# Altium footprint library Handheld.PcbLib: 77 footprints (part 5 of 5)
Each footprint in its own frame and in the unit in brackets; x right, y up, seen from the top. Pads: shape width x height; smd on the part's side, far side on the other; paste and mask are expansions set on the pad; w line width, h text height; cw(c..) or ccw(c..) is an arc to the next point about the centre after c.
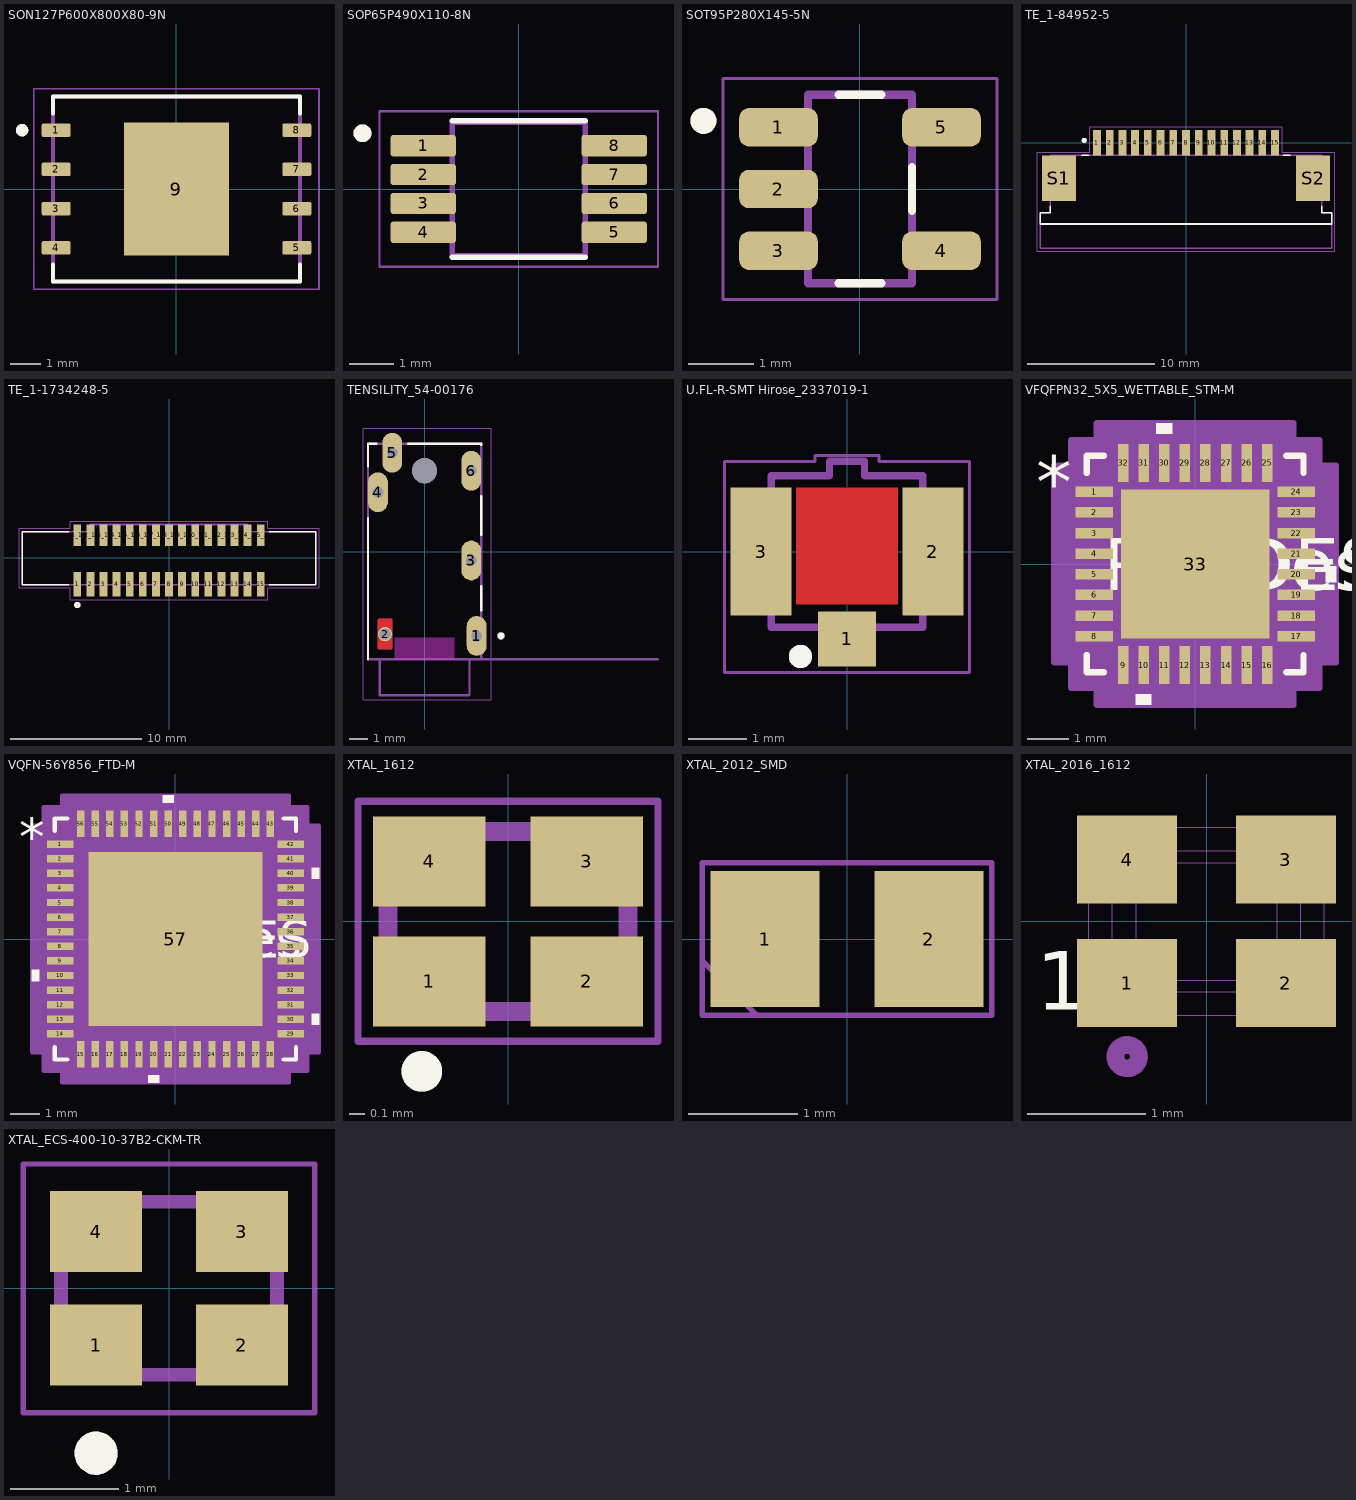
[diagram p4: the footprints below, top view; thin cyan lines are the x and y axes]

## SON127P600X800X80-9N [mm]
height 0.8
pads (9):
  rrect25% 0.94x0.44 smd: 1(-3.895,1.905) 2(-3.895,0.635) 3(-3.895,-0.635) 4(-3.895,-1.905) 5(3.895,-1.905) 6(3.895,-0.635) 7(3.895,0.635) 8(3.895,1.905)
  rect 3.4x4.3 smd paste-3: 9(0,0)
Top Overlay:
  circle w0.2: c-5,1.905 r0.1
  lines w0.127: -4,-2.445 -4,-3 4,-3 4,-2.445 ; -4,2.445 -4,3 4,3 4,2.445
Top Paste:
  region: -0.23,0.23 -1.24,0.23 -1.24,1.69 -0.23,1.69
  region: 1.24,0.23 0.23,0.23 0.23,1.69 1.24,1.69
  region: -0.23,-1.69 -1.24,-1.69 -1.24,-0.23 -0.23,-0.23
  region: 1.24,-1.69 0.23,-1.69 0.23,-0.23 1.24,-0.23
Mechanical 13:
  circle w0.2: c-5,1.905 r0.1
  lines w0.127: -4,-3 4,-3 4,3 -4,3 -4,-3
Mechanical 15:
  lines w0.05: -4.615,-3.25 -4.615,3.25 4.615,3.25 4.615,-3.25 -4.615,-3.25
3D body "step_temp.STEP": height 0.8, standoff -0.05, extent -4,-3 4,3

## SOP65P490X110-8N [mm]
pads (8):
  rrect25% 1.47x0.48 smd: 1(-2.15,0.975) 2(-2.15,0.325) 3(-2.15,-0.325) 4(-2.15,-0.975) 5(2.15,-0.975) 6(2.15,-0.325) 7(2.15,0.325) 8(2.15,0.975)
Top Overlay:
  circle w0.2: c-3.52,1.255 r0.1
  lines w0.127: -1.5,-1.535 1.5,-1.535 ; -1.5,1.535 1.5,1.535
Mechanical 13:
  circle w0.2: c-3.52,1.255 r0.1
  lines w0.127: -1.5,-1.5 1.5,-1.5 1.5,1.5 -1.5,1.5 -1.5,-1.5
Mechanical 15:
  lines w0.05: -3.135,-1.75 3.135,-1.75 3.135,1.75 -3.135,1.75 -3.135,-1.75
3D body "step_temp.STEP": height 1.1, standoff 0, extent -2.45,-1.5 2.45,1.5

## SOT95P280X145-5N [mm]
pads (5):
  rrect50% 1.21x0.59 smd: 1(-1.255,0.95) 2(-1.255,0) 3(-1.255,-0.95) 4(1.255,-0.95) 5(1.255,0.95)
Top Overlay:
  circle w0.2: c-2.41,1.05 r0.1
  lines w0.127: -0.33,-1.45 0.33,-1.45 ; -0.33,1.45 0.33,1.45 ; 0.8,-0.335 0.8,0.335
Mechanical 13:
  circle w0.2: c-2.41,1.05 r0.1
  lines w0.127: -0.8,-1.45 0.8,-1.45 0.8,1.45 -0.8,1.45 -0.8,-1.45
Mechanical 15:
  lines w0.05: -2.11,-1.7 -2.11,1.7 2.11,1.7 2.11,-1.7 -2.11,-1.7
3D body "step_temp.STEP": height 1.45, standoff 0, extent -1.4,-1.45 1.4,1.45

## TE_1-84952-5 [mm]
height 2.74
pads (17):
  rect 0.61x2 smd: 1(-7,0) 2(-6,0) 3(-5,0) 4(-4,0) 5(-3,0) 6(-2,0) 7(-1,0) 8(0,0) 9(1,0) 10(2,0) 11(3,0) 12(4,0) 13(5,0) 14(6,0) 15(7,0)
  rect 2.68x3.6 smd: S1(-9.99,-2.8) S2(9.99,-2.8)
Top Overlay:
  circle w0.2: c-8,0.17 r0.1
  lines w0.127: -10.675,-5 -10.675,-5.51 -11.46,-5.51 -11.46,-6.4 11.46,-6.4 11.46,-5.51 10.675,-5.51 10.675,-5 ; -8.2,-1 -7.64,-1 ; 7.64,-1 8.2,-1
Mechanical 13:
  circle w0.2: c-8,0.17 r0.1
  lines w0.127: -11.46,-6.4 -11.46,-8.3 11.46,-8.3 11.46,-6.4 ; -11.46,-6.4 11.46,-6.4 ; -11.46,-6.4 -11.46,-5.51 -10.675,-5.51 -10.675,-1 10.675,-1 10.675,-5.51 11.46,-5.51 11.46,-6.4
Mechanical 15:
  lines w0.05: -11.71,-8.55 11.71,-8.55 11.71,-0.75 7.555,-0.75 7.555,1.25 -7.555,1.25 -7.555,-0.75 -11.71,-0.75 -11.71,-8.55
3D body "1-84952-5.STEP": height 2.54, standoff -0.02, extent -11.46,-5.602 11.46,0.938

## TE_1-1734248-5 [mm]
pads (30):
  rect 0.6x1.85 smd: 1(-7,-2.025) 2(-6,-2.025) 3(-5,-2.025) 4(-4,-2.025) 5(-3,-2.025) 6(-2,-2.025) 7(-1,-2.025) 8(0,-2.025) 9(1,-2.025) 10(2,-2.025) 11(3,-2.025) 12(4,-2.025) 13(5,-2.025) 14(6,-2.025) 15(7,-2.025)
  rect 0.6x1.65 smd: 1_1(-7,1.725) 2_1(-6,1.725) 3_1(-5,1.725) 4_1(-4,1.725) 5_1(-3,1.725) 6_1(-2,1.725) 7_1(-1,1.725) 8_1(0,1.725) 9_1(1,1.725) 10_1(2,1.725) 11_1(3,1.725) 12_1(4,1.725) 13_1(5,1.725) 14_1(6,1.725) 15_1(7,1.725)
Top Overlay:
  circle w0.2: c-7,-3.6 r0.141
  lines w0.127: -7.65,-2.05 -11.2,-2.05 -11.2,2 -7.65,2 ; 7.65,-2.05 11.2,-2.05 11.2,2 7.65,2
Mechanical 13:
  circle w0.2: c-7,-3.6 r0.141
  lines w0.127: -11.2,-2.05 11.2,-2.05 11.2,2 6,2 6,2.55 -6,2.55 -6,2 -11.2,2 -11.2,-2.05
Mechanical 15:
  lines w0.05: -11.45,-2.3 -7.55,-2.3 -7.55,-3.2 7.55,-3.2 7.55,-2.3 11.45,-2.3 11.45,2.25 7.55,2.25 7.55,2.8 -7.55,2.8 -7.55,2.25 -11.45,2.25 -11.45,-2.3
3D body "step_temp.STEP": height 7.7, standoff 0, extent -11.2,-2.425 11.2,2.425

## TENSILITY_54-00176 [mm]
height 4.35
pads (7):
  oval 1.108x2.216 hole 0.6 square: 1(2.9,-4.7) 3(2.6,-0.5) 4(-2.6,3.3) 5(-1.8,5.5) 6(2.6,4.5)
  round 0.8 hole 0.6 mask+0: 2(-2.2,-4.6)
  round 1.4 hole 1.4 unplated: ""(0,4.5)
Top Layer:
  region: -1.89,-3.751 -1.884,-3.751 -1.879,-3.752 -1.874,-3.753 -1.869,-3.755 -1.864,-3.757 -1.859,-3.759 -1.855,-3.761 -1.85,-3.763 -1.846,-3.766 -1.841,-3.769 -1.837,-3.772 -1.833,-3.776 -1.829,-3.779 -1.826,-3.783 -1.822,-3.787 -1.819,-3.791 -1.816,-3.796 -1.813,-3.8 -1.811,-3.805 -1.809,-3.809 -1.807,-3.814 -1.805,-3.819 -1.803,-3.824 -1.802,-3.829 -1.801,-3.834 -1.801,-3.84 -1.8,-3.845 -1.8,-3.85 -1.8,-5.35 -1.8,-5.355 -1.801,-5.36 -1.801,-5.366 -1.802,-5.371 -1.803,-5.376 -1.805,-5.381 -1.807,-5.386 -1.809,-5.391 -1.811,-5.395 -1.813,-5.4 -1.816,-5.404 -1.819,-5.409 -1.822,-5.413 -1.826,-5.417 -1.829,-5.421 -1.833,-5.424 -1.837,-5.428 -1.841,-5.431 -1.846,-5.434 -1.85,-5.437 -1.855,-5.439 -1.859,-5.441 -1.864,-5.443 -1.869,-5.445 -1.874,-5.447 -1.879,-5.448 -1.884,-5.449 -1.89,-5.449 -1.895,-5.45 -2.505,-5.45 -2.51,-5.449 -2.516,-5.449 -2.521,-5.448 -2.526,-5.447 -2.531,-5.445 -2.536,-5.443 -2.541,-5.441 -2.545,-5.439 -2.55,-5.437 -2.554,-5.434 -2.559,-5.431 -2.563,-5.428 -2.567,-5.424 -2.571,-5.421 -2.574,-5.417 -2.578,-5.413 -2.581,-5.409 -2.584,-5.404 -2.587,-5.4 -2.589,-5.395 -2.591,-5.391 -2.593,-5.386 -2.595,-5.381 -2.597,-5.376 -2.598,-5.371 -2.599,-5.366 -2.599,-5.36 -2.6,-5.355 -2.6,-5.35 -2.6,-3.85 -2.6,-3.845 -2.599,-3.84 -2.599,-3.834 -2.598,-3.829 -2.597,-3.824 -2.595,-3.819 -2.593,-3.814 -2.591,-3.809 -2.589,-3.805 -2.587,-3.8 -2.584,-3.796 -2.581,-3.791 -2.578,-3.787 -2.574,-3.783 -2.571,-3.779 -2.567,-3.776 -2.563,-3.772 -2.559,-3.769 -2.554,-3.766 -2.55,-3.763 -2.545,-3.761 -2.541,-3.759 -2.536,-3.757 -2.531,-3.755 -2.526,-3.753 -2.521,-3.752 -2.516,-3.751 -2.51,-3.751 -2.505,-3.75 -1.895,-3.75
Bottom Layer:
  region: -1.89,-3.751 -1.884,-3.751 -1.879,-3.752 -1.874,-3.753 -1.869,-3.755 -1.864,-3.757 -1.859,-3.759 -1.855,-3.761 -1.85,-3.763 -1.846,-3.766 -1.841,-3.769 -1.837,-3.772 -1.833,-3.776 -1.829,-3.779 -1.826,-3.783 -1.822,-3.787 -1.819,-3.791 -1.816,-3.796 -1.813,-3.8 -1.811,-3.805 -1.809,-3.809 -1.807,-3.814 -1.805,-3.819 -1.803,-3.824 -1.802,-3.829 -1.801,-3.834 -1.801,-3.84 -1.8,-3.845 -1.8,-3.85 -1.8,-5.35 -1.8,-5.355 -1.801,-5.36 -1.801,-5.366 -1.802,-5.371 -1.803,-5.376 -1.805,-5.381 -1.807,-5.386 -1.809,-5.391 -1.811,-5.395 -1.813,-5.4 -1.816,-5.404 -1.819,-5.409 -1.822,-5.413 -1.826,-5.417 -1.829,-5.421 -1.833,-5.424 -1.837,-5.428 -1.841,-5.431 -1.846,-5.434 -1.85,-5.437 -1.855,-5.439 -1.859,-5.441 -1.864,-5.443 -1.869,-5.445 -1.874,-5.447 -1.879,-5.448 -1.884,-5.449 -1.89,-5.449 -1.895,-5.45 -2.505,-5.45 -2.51,-5.449 -2.516,-5.449 -2.521,-5.448 -2.526,-5.447 -2.531,-5.445 -2.536,-5.443 -2.541,-5.441 -2.545,-5.439 -2.55,-5.437 -2.554,-5.434 -2.559,-5.431 -2.563,-5.428 -2.567,-5.424 -2.571,-5.421 -2.574,-5.417 -2.578,-5.413 -2.581,-5.409 -2.584,-5.404 -2.587,-5.4 -2.589,-5.395 -2.591,-5.391 -2.593,-5.386 -2.595,-5.381 -2.597,-5.376 -2.598,-5.371 -2.599,-5.366 -2.599,-5.36 -2.6,-5.355 -2.6,-5.35 -2.6,-3.85 -2.6,-3.845 -2.599,-3.84 -2.599,-3.834 -2.598,-3.829 -2.597,-3.824 -2.595,-3.819 -2.593,-3.814 -2.591,-3.809 -2.589,-3.805 -2.587,-3.8 -2.584,-3.796 -2.581,-3.791 -2.578,-3.787 -2.574,-3.783 -2.571,-3.779 -2.567,-3.776 -2.563,-3.772 -2.559,-3.769 -2.554,-3.766 -2.55,-3.763 -2.545,-3.761 -2.541,-3.759 -2.536,-3.757 -2.531,-3.755 -2.526,-3.753 -2.521,-3.752 -2.516,-3.751 -2.51,-3.751 -2.505,-3.75 -1.895,-3.75
Top Overlay:
  circle w0.2: c4.25,-4.7 r0.1
  lines w0.127: -3.15,-6 -3.15,1.872 ; -3.15,4.728 -3.15,6 -2.674,6 ; -0.926,6 3.15,6 3.15,5.928 ; 3.15,-3.272 3.15,-1.928 ; 3.15,0.928 3.15,3.072
Top Solder:
  region: -1.879,-3.651 -1.869,-3.652 -1.858,-3.654 -1.848,-3.657 -1.838,-3.66 -1.828,-3.663 -1.819,-3.667 -1.809,-3.672 -1.8,-3.677 -1.791,-3.682 -1.782,-3.688 -1.774,-3.695 -1.766,-3.701 -1.759,-3.709 -1.751,-3.716 -1.745,-3.724 -1.738,-3.732 -1.732,-3.741 -1.727,-3.75 -1.722,-3.759 -1.717,-3.769 -1.713,-3.778 -1.71,-3.788 -1.707,-3.798 -1.704,-3.808 -1.702,-3.819 -1.701,-3.829 -1.7,-3.84 -1.7,-3.85 -1.7,-5.35 -1.7,-5.36 -1.701,-5.371 -1.702,-5.381 -1.704,-5.392 -1.707,-5.402 -1.71,-5.412 -1.713,-5.422 -1.717,-5.431 -1.722,-5.441 -1.727,-5.45 -1.732,-5.459 -1.738,-5.468 -1.745,-5.476 -1.751,-5.484 -1.759,-5.491 -1.766,-5.499 -1.774,-5.505 -1.782,-5.512 -1.791,-5.518 -1.8,-5.523 -1.809,-5.528 -1.819,-5.533 -1.828,-5.537 -1.838,-5.54 -1.848,-5.543 -1.858,-5.546 -1.869,-5.548 -1.879,-5.549 -1.89,-5.55 -2.51,-5.55 -2.521,-5.549 -2.531,-5.548 -2.542,-5.546 -2.552,-5.543 -2.562,-5.54 -2.572,-5.537 -2.581,-5.533 -2.591,-5.528 -2.6,-5.523 -2.609,-5.518 -2.618,-5.512 -2.626,-5.505 -2.634,-5.499 -2.641,-5.491 -2.649,-5.484 -2.655,-5.476 -2.662,-5.468 -2.668,-5.459 -2.673,-5.45 -2.678,-5.441 -2.683,-5.431 -2.687,-5.422 -2.69,-5.412 -2.693,-5.402 -2.696,-5.392 -2.698,-5.381 -2.699,-5.371 -2.7,-5.36 -2.7,-5.35 -2.7,-3.85 -2.7,-3.84 -2.699,-3.829 -2.698,-3.819 -2.696,-3.808 -2.693,-3.798 -2.69,-3.788 -2.687,-3.778 -2.683,-3.769 -2.678,-3.759 -2.673,-3.75 -2.668,-3.741 -2.662,-3.732 -2.655,-3.724 -2.649,-3.716 -2.641,-3.709 -2.634,-3.701 -2.626,-3.695 -2.618,-3.688 -2.609,-3.682 -2.6,-3.677 -2.591,-3.672 -2.581,-3.667 -2.572,-3.663 -2.562,-3.66 -2.552,-3.657 -2.542,-3.654 -2.531,-3.652 -2.521,-3.651 -2.51,-3.65 -1.89,-3.65
Bottom Solder:
  region: -1.879,-3.651 -1.869,-3.652 -1.858,-3.654 -1.848,-3.657 -1.838,-3.66 -1.828,-3.663 -1.819,-3.667 -1.809,-3.672 -1.8,-3.677 -1.791,-3.682 -1.782,-3.688 -1.774,-3.695 -1.766,-3.701 -1.759,-3.709 -1.751,-3.716 -1.745,-3.724 -1.738,-3.732 -1.732,-3.741 -1.727,-3.75 -1.722,-3.759 -1.717,-3.769 -1.713,-3.778 -1.71,-3.788 -1.707,-3.798 -1.704,-3.808 -1.702,-3.819 -1.701,-3.829 -1.7,-3.84 -1.7,-3.85 -1.7,-5.35 -1.7,-5.36 -1.701,-5.371 -1.702,-5.381 -1.704,-5.392 -1.707,-5.402 -1.71,-5.412 -1.713,-5.422 -1.717,-5.431 -1.722,-5.441 -1.727,-5.45 -1.732,-5.459 -1.738,-5.468 -1.745,-5.476 -1.751,-5.484 -1.759,-5.491 -1.766,-5.499 -1.774,-5.505 -1.782,-5.512 -1.791,-5.518 -1.8,-5.523 -1.809,-5.528 -1.819,-5.533 -1.828,-5.537 -1.838,-5.54 -1.848,-5.543 -1.858,-5.546 -1.869,-5.548 -1.879,-5.549 -1.89,-5.55 -2.51,-5.55 -2.521,-5.549 -2.531,-5.548 -2.542,-5.546 -2.552,-5.543 -2.562,-5.54 -2.572,-5.537 -2.581,-5.533 -2.591,-5.528 -2.6,-5.523 -2.609,-5.518 -2.618,-5.512 -2.626,-5.505 -2.634,-5.499 -2.641,-5.491 -2.649,-5.484 -2.655,-5.476 -2.662,-5.468 -2.668,-5.459 -2.673,-5.45 -2.678,-5.441 -2.683,-5.431 -2.687,-5.422 -2.69,-5.412 -2.693,-5.402 -2.696,-5.392 -2.698,-5.381 -2.699,-5.371 -2.7,-5.36 -2.7,-5.35 -2.7,-3.85 -2.7,-3.84 -2.699,-3.829 -2.698,-3.819 -2.696,-3.808 -2.693,-3.798 -2.69,-3.788 -2.687,-3.778 -2.683,-3.769 -2.678,-3.759 -2.673,-3.75 -2.668,-3.741 -2.662,-3.732 -2.655,-3.724 -2.649,-3.716 -2.641,-3.709 -2.634,-3.701 -2.626,-3.695 -2.618,-3.688 -2.609,-3.682 -2.6,-3.677 -2.591,-3.672 -2.581,-3.667 -2.572,-3.663 -2.562,-3.66 -2.552,-3.657 -2.542,-3.654 -2.531,-3.652 -2.521,-3.651 -2.51,-3.65 -1.89,-3.65
Keep-Out Layer:
  board cut-out: -1.65,-4.8 -1.65,-6 1.65,-6 1.65,-4.8
Mechanical 1:
  lines w0: -2.5,-5.35 -2.5,-3.85 -1.9,-3.85 -1.9,-5.35 -2.5,-5.35
Mechanical 13:
  circle w0.2: c4.25,-4.7 r0.1
  lines w0.127: 13,-6 -2.5,-6 ; -2.5,-6 -2.5,-8 2.5,-8 2.5,-6 3.15,-6 3.15,6 -3.15,6 -3.15,-6 -2.5,-6
  text "PCB EDGE" at 5.25,-5.75 h1
Mechanical 15:
  lines w0.05: -3.404,-8.25 -3.404,6.858 3.704,6.858 3.704,-8.25 -3.404,-8.25
3D body "step_temp.STEP": height 4.35, standoff -2, extent -3.15,-8 3.15,6

## U.FL-R-SMT Hirose_2337019-1 [mm] "Hirose U.FL RF receptacle - U.FL-R-SMT"
height 1.25
pads (3):
  rect 1x0.95 smd paste+0 mask+0.025: 1(0,-1.5)
  rect 1.05x2.2 smd paste+0 mask+0.025: 2(1.475,0) 3(-1.475,0)
Top Layer:
  pour cut-out: -0.875,-0.9 -0.875,1.1 0.875,1.1 0.875,-0.9
Mid-Layer 1:
  pour cut-out: -0.875,-0.9 -0.875,1.1 0.875,1.1 0.875,-0.9
Mid-Layer 2:
  pour cut-out: -0.875,-0.9 -0.875,1.1 0.875,1.1 0.875,-0.9
Top Overlay:
  circle w0.2: c-0.8,-1.8 r0.1
Mechanical 13:
  circle w0.2: c-0.8,-1.8 r0.1
  lines w0.127: -1.3,-1.3 1.3,-1.3 1.3,1.3 0.3,1.3 0.3,1.55 -0.3,1.55 -0.3,1.3 -1.3,1.3 -1.3,-1.3
Mechanical 15:
  lines w0.02: -0.05,0 0.05,0 ; 0,-0.05 0,0.05
  lines w0.05: -2.1,-2.075 2.1,-2.075 2.1,1.55 0.55,1.55 0.55,1.65 -0.55,1.65 -0.55,1.55 -2.1,1.55 -2.1,-2.075
3D body "step_temp.STEP": height 1.2, standoff -0.05, extent -1.5,-1.55 1.5,1.55

## VFQFPN32_5X5_WETTABLE_STM-M [mil]
pads (33):
  rect 36x10 smd paste+0 mask+0: 1(-96.5,68.9) 2(-96.5,49.21) 3(-96.5,29.53) 4(-96.5,9.84) 5(-96.5,-9.84) 6(-96.5,-29.53) 7(-96.5,-49.21) 8(-96.5,-68.9) 17(96.5,-68.9) 18(96.5,-49.21) 19(96.5,-29.53) 20(96.5,-9.84) 21(96.5,9.84) 22(96.5,29.53) 23(96.5,49.21) 24(96.5,68.9)
  rect 10x36 smd paste+0 mask+0: 9(-68.9,-96.5) 10(-49.21,-96.5) 11(-29.53,-96.5) 12(-9.84,-96.5) 13(9.84,-96.5) 14(29.53,-96.5) 15(49.21,-96.5) 16(68.9,-96.5) 25(68.9,96.5) 26(49.21,96.5) 27(29.53,96.5) 28(9.84,96.5) 29(-9.84,96.5) 30(-29.53,96.5) 31(-49.21,96.5) 32(-68.9,96.5)
  rect 142x142 smd paste-71 mask+0: 33(0,0)
Top Overlay:
  region: -41.71,-124.5 -56.71,-124.5 -56.71,-134.5 -41.71,-134.5
  region: 124.5,-2.34 134.5,-2.34 134.5,-17.34 124.5,-17.34
  region: -22.03,124.5 -37.03,124.5 -37.03,134.5 -22.03,134.5
  lines w6: -103.5,-87 -103.5,-103.5 -87,-103.5 ; -103.5,87 -103.5,103.5 -87,103.5 ; 87,-103.5 103.5,-103.5 103.5,-87 ; 87,103.5 103.5,103.5 103.5,87
  text "*" at -152,53.74 h50
  text "RefDes" at -75,-25 h50
  text "REFDES" at -87.5,-25 h50
Top Paste:
  region: -3.94,67.06 -67.06,67.06 -67.06,3.94 -3.94,3.94
  region: -3.94,-3.94 -67.06,-3.94 -67.06,-67.06 -3.94,-67.06
  region: 67.06,67.06 3.94,67.06 3.94,3.94 67.06,3.94
  region: 67.06,-3.94 3.94,-3.94 3.94,-67.06 67.06,-67.06
Mechanical 13:
  lines w1: -98.5,48.5 -48.5,98.5 ; -98.5,-98.5 98.5,-98.5 98.5,98.5 -98.5,98.5 -98.5,-98.5 ; -98.5,-74.9 -98.5,-62.9 -98.5,-74.9 ; -98.5,-55.21 -98.5,-43.21 -98.5,-55.21 ; -98.5,-35.53 -98.5,-23.53 -98.5,-35.53 ; -98.5,-15.84 -98.5,-3.84 -98.5,-15.84 ; -98.5,3.84 -98.5,15.84 -98.5,3.84 ; -98.5,23.53 -98.5,35.53 -98.5,23.53 ; -98.5,43.21 -98.5,55.21 -98.5,43.21 ; -98.5,62.9 -98.5,74.9 -98.5,62.9 ; -74.9,-98.5 -62.9,-98.5 -74.9,-98.5 ; -74.9,98.5 -62.9,98.5 -74.9,98.5 ; -55.21,-98.5 -43.21,-98.5 -55.21,-98.5 ; -55.21,98.5 -43.21,98.5 -55.21,98.5 ; -35.53,-98.5 -23.53,-98.5 -35.53,-98.5 ; -35.53,98.5 -23.53,98.5 -35.53,98.5 ; -15.84,-98.5 -3.84,-98.5 -15.84,-98.5 ; -15.84,98.5 -3.84,98.5 -15.84,98.5 ; 3.84,-98.5 15.84,-98.5 3.84,-98.5 ; 3.84,98.5 15.84,98.5 3.84,98.5 ; 23.53,-98.5 35.53,-98.5 23.53,-98.5 ; 23.53,98.5 35.53,98.5 23.53,98.5 ; 43.21,-98.5 55.21,-98.5 43.21,-98.5 ; 43.21,98.5 55.21,98.5 43.21,98.5 ; 62.9,-98.5 74.9,-98.5 62.9,-98.5 ; 62.9,98.5 74.9,98.5 62.9,98.5 ; 98.5,-74.9 98.5,-62.9 98.5,-74.9 ; 98.5,-55.21 98.5,-43.21 98.5,-55.21 ; 98.5,-35.53 98.5,-23.53 98.5,-35.53 ; 98.5,-15.84 98.5,-3.84 98.5,-15.84 ; 98.5,3.84 98.5,15.84 98.5,3.84 ; 98.5,23.53 98.5,35.53 98.5,23.53 ; 98.5,43.21 98.5,55.21 98.5,43.21 ; 98.5,62.9 98.5,74.9 98.5,62.9
  text "*" at -91,53.74 h50
  text "RefDes2" at -87.5,-25 h50
Mechanical 15:
  region: -93.9,-118.5 -118.5,-118.5 -118.5,-93.9 -134.5,-93.9 -134.5,93.9 -118.5,93.9 -118.5,118.5 -93.9,118.5 -93.9,134.5 93.9,134.5 93.9,118.5 118.5,118.5 118.5,93.9 134.5,93.9 134.5,-93.9 118.5,-93.9 118.5,-118.5 93.9,-118.5 93.9,-134.5 -93.9,-134.5
  lines w6: -134.5,-93.9 -118.5,-93.9 -118.5,-118.5 -93.9,-118.5 -93.9,-134.5 93.9,-134.5 93.9,-118.5 118.5,-118.5 118.5,-93.9 134.5,-93.9 134.5,93.9 118.5,93.9 118.5,118.5 93.9,118.5 93.9,134.5 -93.9,134.5 -93.9,118.5 -118.5,118.5 -118.5,93.9 -134.5,93.9 -134.5,-93.9
3D body "VFQFPN32_5X5_WETTABLE_STM.step": height 39.09, standoff 0, extent -98.5,-98.5 98.5,98.5

## VQFN-56Y856_FTD-M [mil]
pads (57):
  rect 36x10 smd paste+0 mask+0: 1(-155.5,127.95) 2(-155.5,108.27) 3(-155.5,88.58) 4(-155.5,68.9) 5(-155.5,49.21) 6(-155.5,29.53) 7(-155.5,9.84) 8(-155.5,-9.84) 9(-155.5,-29.53) 10(-155.5,-49.21) 11(-155.5,-68.9) 12(-155.5,-88.58) 13(-155.5,-108.27) 14(-155.5,-127.95) 29(155.5,-127.95) 30(155.5,-108.27) 31(155.5,-88.58) 32(155.5,-68.9) 33(155.5,-49.21) 34(155.5,-29.53) 35(155.5,-9.84) 36(155.5,9.84) 37(155.5,29.53) 38(155.5,49.21) 39(155.5,68.9) 40(155.5,88.58) 41(155.5,108.27) 42(155.5,127.95)
  rect 10x36 smd paste+0 mask+0: 15(-127.95,-155.5) 16(-108.27,-155.5) 17(-88.58,-155.5) 18(-68.9,-155.5) 19(-49.21,-155.5) 20(-29.53,-155.5) 21(-9.84,-155.5) 22(9.84,-155.5) 23(29.53,-155.5) 24(49.21,-155.5) 25(68.9,-155.5) 26(88.58,-155.5) 27(108.27,-155.5) 28(127.95,-155.5) 43(127.95,155.5) 44(108.27,155.5) 45(88.58,155.5) 46(68.9,155.5) 47(49.21,155.5) 48(29.53,155.5) 49(9.84,155.5) 50(-9.84,155.5) 51(-29.53,155.5) 52(-49.21,155.5) 53(-68.9,155.5) 54(-88.58,155.5) 55(-108.27,155.5) 56(-127.95,155.5)
  rect 234x234 smd paste-117 mask+0: 57(0,0)
Top Overlay:
  region: -183.5,-41.71 -193.5,-41.71 -193.5,-56.71 -183.5,-56.71
  region: -22.03,-183.5 -37.03,-183.5 -37.03,-193.5 -22.03,-193.5
  region: 183.5,-100.77 193.5,-100.77 193.5,-115.77 183.5,-115.77
  region: 183.5,96.08 193.5,96.08 193.5,81.08 183.5,81.08
  region: -2.34,183.5 -17.34,183.5 -17.34,193.5 -2.34,193.5
  lines w6: -162.5,-146.05 -162.5,-162.5 -146.05,-162.5 ; -162.5,146.05 -162.5,162.5 -146.05,162.5 ; 146.05,-162.5 162.5,-162.5 162.5,-146.05 ; 146.05,162.5 162.5,162.5 162.5,146.05
  text "*" at -211,112.8 h50
  text "RefDes" at -75,-25 h50
  text "REFDES" at -87.5,-25 h50
Top Paste:
  region: -62.44,113.06 -113.06,113.06 -113.06,62.44 -62.44,62.44
  region: -62.44,54.56 -113.06,54.56 -113.06,3.94 -62.44,3.94
  region: -62.44,-3.94 -113.06,-3.94 -113.06,-54.56 -62.44,-54.56
  region: -62.44,-62.44 -113.06,-62.44 -113.06,-113.06 -62.44,-113.06
  region: -3.94,113.06 -54.56,113.06 -54.56,62.44 -3.94,62.44
  region: -3.94,54.56 -54.56,54.56 -54.56,3.94 -3.94,3.94
  region: -3.94,-3.94 -54.56,-3.94 -54.56,-54.56 -3.94,-54.56
  region: -3.94,-62.44 -54.56,-62.44 -54.56,-113.06 -3.94,-113.06
  region: 54.56,113.06 3.94,113.06 3.94,62.44 54.56,62.44
  region: 54.56,54.56 3.94,54.56 3.94,3.94 54.56,3.94
  region: 54.56,-3.94 3.94,-3.94 3.94,-54.56 54.56,-54.56
  region: 54.56,-62.44 3.94,-62.44 3.94,-113.06 54.56,-113.06
  region: 113.06,113.06 62.44,113.06 62.44,62.44 113.06,62.44
  region: 113.06,54.56 62.44,54.56 62.44,3.94 113.06,3.94
  region: 113.06,-3.94 62.44,-3.94 62.44,-54.56 113.06,-54.56
  region: 113.06,-62.44 62.44,-62.44 62.44,-113.06 113.06,-113.06
Mechanical 13:
  lines w1: -157.5,107.5 -107.5,157.5 ; -157.5,-157.5 157.5,-157.5 157.5,157.5 -157.5,157.5 -157.5,-157.5 ; -157.5,-133.95 -157.5,-121.95 -157.5,-133.95 ; -157.5,-114.27 -157.5,-102.27 -157.5,-114.27 ; -157.5,-94.58 -157.5,-82.58 -157.5,-94.58 ; -157.5,-74.9 -157.5,-62.9 -157.5,-74.9 ; -157.5,-55.21 -157.5,-43.21 -157.5,-55.21 ; -157.5,-35.53 -157.5,-23.53 -157.5,-35.53 ; -157.5,-15.84 -157.5,-3.84 -157.5,-15.84 ; -157.5,3.84 -157.5,15.84 -157.5,3.84 ; -157.5,23.53 -157.5,35.53 -157.5,23.53 ; -157.5,43.21 -157.5,55.21 -157.5,43.21 ; -157.5,62.9 -157.5,74.9 -157.5,62.9 ; -157.5,82.58 -157.5,94.58 -157.5,82.58 ; -157.5,102.27 -157.5,114.27 -157.5,102.27 ; -157.5,121.95 -157.5,133.95 -157.5,121.95 ; -133.95,-157.5 -121.95,-157.5 -133.95,-157.5 ; -133.95,157.5 -121.95,157.5 -133.95,157.5 ; -114.27,-157.5 -102.27,-157.5 -114.27,-157.5 ; -114.27,157.5 -102.27,157.5 -114.27,157.5 ; -94.58,-157.5 -82.58,-157.5 -94.58,-157.5 ; -94.58,157.5 -82.58,157.5 -94.58,157.5 ; -74.9,-157.5 -62.9,-157.5 -74.9,-157.5 ; -74.9,157.5 -62.9,157.5 -74.9,157.5 ; -55.21,-157.5 -43.21,-157.5 -55.21,-157.5 ; -55.21,157.5 -43.21,157.5 -55.21,157.5 ; -35.53,-157.5 -23.53,-157.5 -35.53,-157.5 ; -35.53,157.5 -23.53,157.5 -35.53,157.5 ; -15.84,-157.5 -3.84,-157.5 -15.84,-157.5 ; -15.84,157.5 -3.84,157.5 -15.84,157.5 ; 3.84,-157.5 15.84,-157.5 3.84,-157.5 ; 3.84,157.5 15.84,157.5 3.84,157.5 ; 23.53,-157.5 35.53,-157.5 23.53,-157.5 ; 23.53,157.5 35.53,157.5 23.53,157.5 ; 43.21,-157.5 55.21,-157.5 43.21,-157.5 ; 43.21,157.5 55.21,157.5 43.21,157.5 ; 62.9,-157.5 74.9,-157.5 62.9,-157.5 ; 62.9,157.5 74.9,157.5 62.9,157.5 ; 82.58,-157.5 94.58,-157.5 82.58,-157.5 ; 82.58,157.5 94.58,157.5 82.58,157.5 ; 102.27,-157.5 114.27,-157.5 102.27,-157.5 ; 102.27,157.5 114.27,157.5 102.27,157.5 ; 121.95,-157.5 133.95,-157.5 121.95,-157.5 ; 121.95,157.5 133.95,157.5 121.95,157.5 ; 157.5,-133.95 157.5,-121.95 157.5,-133.95 ; 157.5,-114.27 157.5,-102.27 157.5,-114.27 ; 157.5,-94.58 157.5,-82.58 157.5,-94.58 ; 157.5,-74.9 157.5,-62.9 157.5,-74.9 ; 157.5,-55.21 157.5,-43.21 157.5,-55.21 ; 157.5,-35.53 157.5,-23.53 157.5,-35.53 ; 157.5,-15.84 157.5,-3.84 157.5,-15.84 ; 157.5,3.84 157.5,15.84 157.5,3.84 ; 157.5,23.53 157.5,35.53 157.5,23.53 ; 157.5,43.21 157.5,55.21 157.5,43.21 ; 157.5,62.9 157.5,74.9 157.5,62.9 ; 157.5,82.58 157.5,94.58 157.5,82.58 ; 157.5,102.27 157.5,114.27 157.5,102.27 ; 157.5,121.95 157.5,133.95 157.5,121.95
  text "*" at -150,112.8 h50
  text "RefDes2" at -87.5,-25 h50
Mechanical 15:
  region: -152.95,-177.5 -177.5,-177.5 -177.5,-152.95 -193.5,-152.95 -193.5,152.95 -177.5,152.95 -177.5,177.5 -152.95,177.5 -152.95,193.5 152.95,193.5 152.95,177.5 177.5,177.5 177.5,152.95 193.5,152.95 193.5,-152.95 177.5,-152.95 177.5,-177.5 152.95,-177.5 152.95,-193.5 -152.95,-193.5
  lines w6: -193.5,-152.95 -177.5,-152.95 -177.5,-177.5 -152.95,-177.5 -152.95,-193.5 152.95,-193.5 152.95,-177.5 177.5,-177.5 177.5,-152.95 193.5,-152.95 193.5,152.95 177.5,152.95 177.5,177.5 152.95,177.5 152.95,193.5 -152.95,193.5 -152.95,177.5 -177.5,177.5 -177.5,152.95 -193.5,152.95 -193.5,-152.95
3D body "VQFN-56Y856_FTD.step": height 35.12, standoff 0, extent -157.48,-157.48 157.48,157.48

## XTAL_1612 [mm] "Crystal SMD 1.6x1.2mm"
height 0.55
pads (4):
  rect 0.75x0.6 smd paste+0 mask+0.05: 1(-0.525,-0.4) 2(0.525,-0.4) 3(0.525,0.4) 4(-0.525,0.4)
Top Overlay:
  circle w0.2: c-0.575,-1 r0.035
Top Solder:
  region: 0.1,0.75 0.1,-0.75 0.95,-0.75 0.95,0.75
  region: -0.95,-0.75 -0.95,0.75 -0.1,0.75 -0.1,-0.75
Mechanical 13:
  lines w0.127: -0.8,-0.6 -0.8,0.6 0.8,0.6 0.8,-0.6 -0.8,-0.6
Mechanical 15:
  circle w0.2: c-0.575,-1 r0.035
  lines w0.05: -1,-0.8 -1,0.8 1,0.8 1,-0.8 -1,-0.8
  text "1" at -1.3,-0.6 h0.4
3D body "NX1612SA-32.000MHZ-CHP-CIS-3--3DModel-STEP-56544.STEP": height 0.35, standoff 0, extent -0.8,-0.6 0.8,0.6

## XTAL_2012_SMD [mm] "XTAL SMD; Body 2.0x1.2 mm (LxW max)"
height 0.9
pads (2):
  rect 1x1.25 smd paste+0 mask+0.025: 1(-0.75,0) 2(0.75,0)
Mechanical 15:
  lines w0.05: -1.325,-0.2 -0.825,-0.7 ; -1.325,-0.7 1.325,-0.7 1.325,0.7 -1.325,0.7 -1.325,-0.7
3D body "NX2012.STEP": height 0.38, standoff 0, extent -1,-0.6 1,0.6

## XTAL_2016_1612 [mm] "Crystal SMD 2.0x1.6mm and 1.6x1.2mm"
height 0.55
pads (4):
  rect 0.85x0.75 smd mask+0.025: 1(-0.675,-0.525) 2(0.675,-0.525) 3(0.675,0.525) 4(-0.675,0.525)
Top Overlay:
  text "1" at -1.45,-0.75 h0.5
Mechanical 15:
  circle w0.15: c-0.675,-1.15 r0.1
  lines w0.01: -1,-0.8 -1,0.8 1,0.8 1,-0.8 -1,-0.8 ; -0.8,-0.6 -0.8,0.6 0.8,0.6 0.8,-0.6 -0.8,-0.6 ; -0.6,-0.5 -0.6,0.5 0.6,0.5 0.6,-0.5 -0.6,-0.5
3D body "NX2016.STEP": height 0.5, standoff 0, extent -1,-0.8 1,0.8

## XTAL_ECS-400-10-37B2-CKM-TR [mm]
height 0.5
pads (4):
  rect 0.85x0.75 smd: 1(-0.675,-0.525) 2(0.675,-0.525) 3(0.675,0.525) 4(-0.675,0.525)
Top Overlay:
  circle w0.2: c-0.675,-1.525 r0.1
Mechanical 13:
  circle w0.2: c-0.675,-1.525 r0.1
  lines w0.127: -1,-0.8 -1,0.8 1,0.8 1,-0.8 -1,-0.8
Mechanical 15:
  lines w0.05: -1.35,-1.15 -1.35,1.15 1.35,1.15 1.35,-1.15 -1.35,-1.15
3D body "step_temp.STEP": height 0.5, standoff 0, extent -1,-0.8 1,0.8